# EAGLE library part S1D13743 (library microbuilder)
Epson S1D13743 Mobile Graphics Engine with 464K Internal SRAM
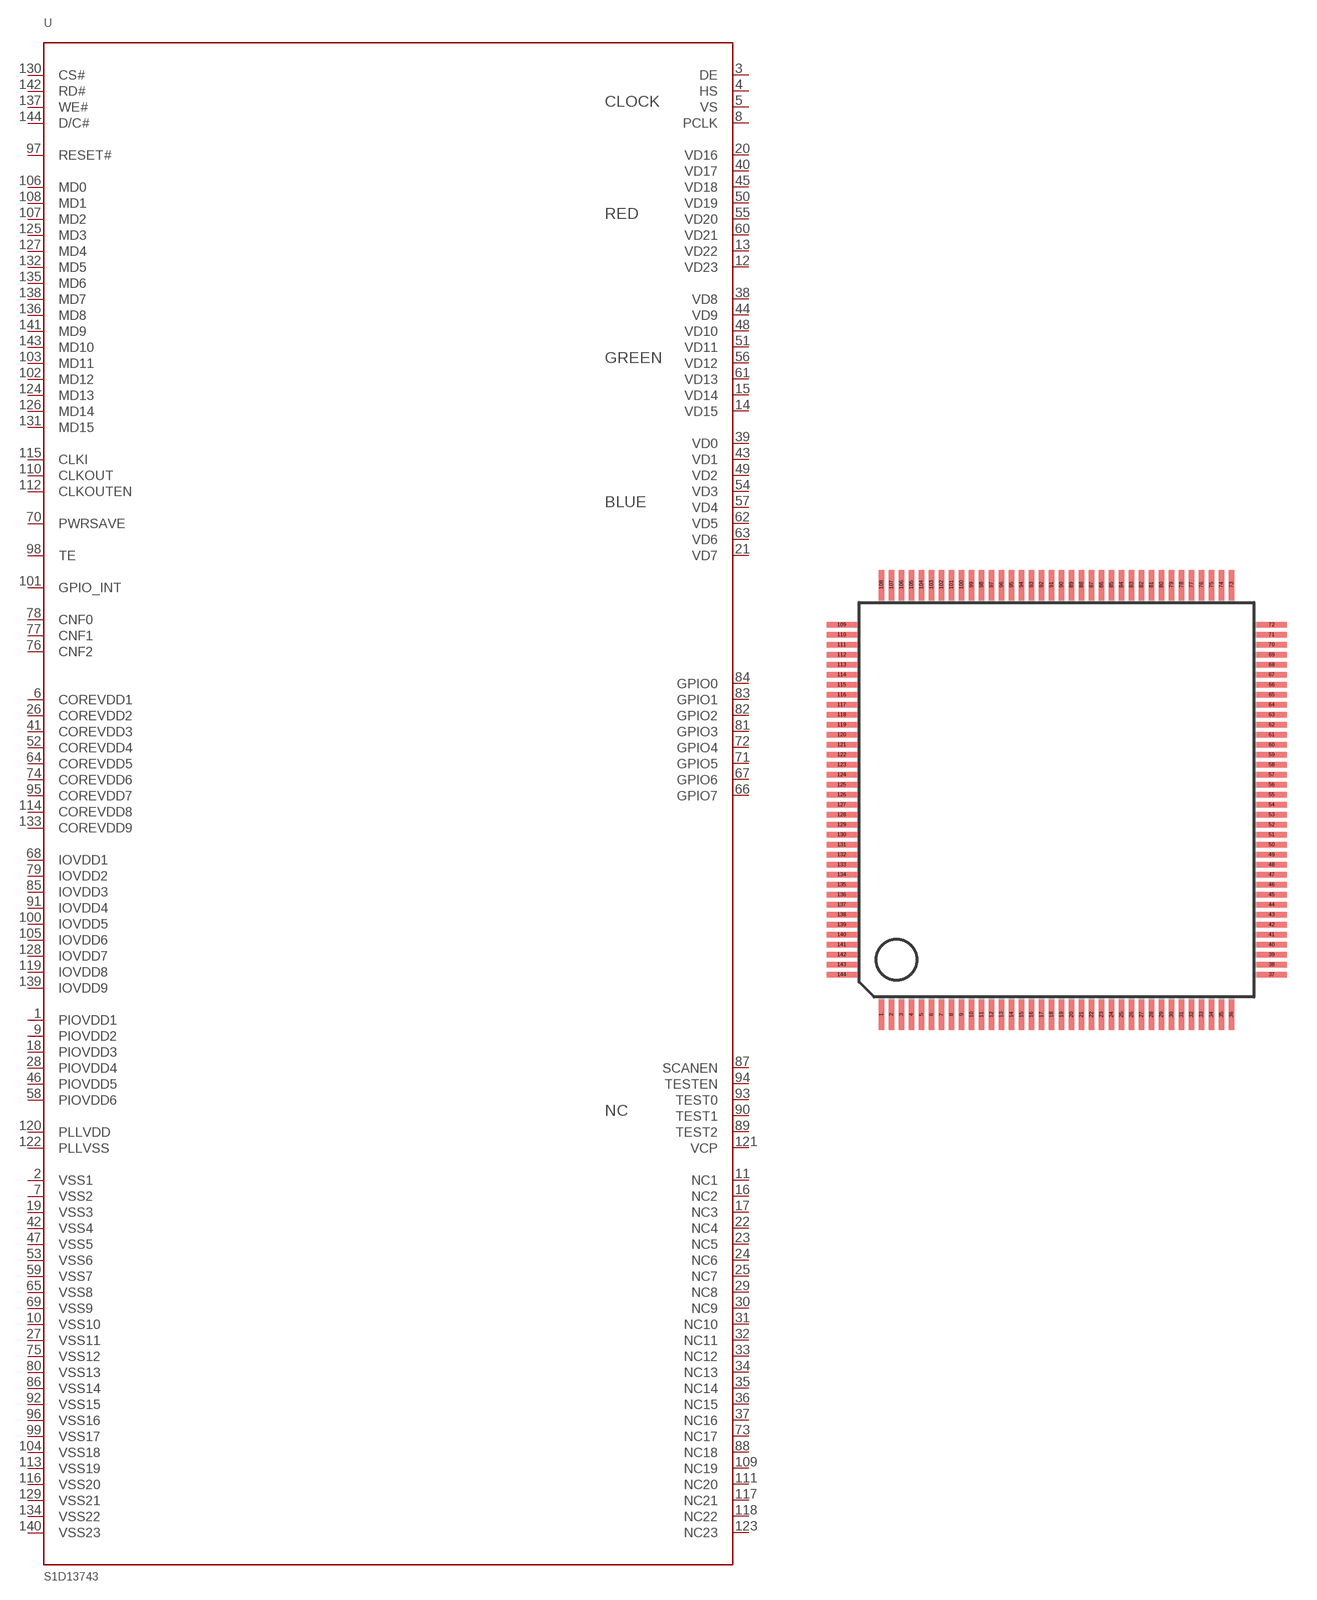
[diagram p67: symbol with the pads of LQFP144; footprint LQFP144]

Designator prefix U

## S1D13743  [LQFP144]
1  PIOVDD1
2  VSS1
3  DE
4  HS
5  VS
6  COREVDD1
7  VSS2
8  PCLK
9  PIOVDD2
10  VSS10
11  NC1
12  VD23
13  VD22
14  VD15
15  VD14
16  NC2
17  NC3
18  PIOVDD3
19  VSS3
20  VD16
21  VD7
22  NC4
23  NC5
24  NC6
25  NC7
26  COREVDD2
27  VSS11
28  PIOVDD4
29  NC8
30  NC9
31  NC10
32  NC11
33  NC12
34  NC13
35  NC14
36  NC15
37  NC16
38  VD8
39  VD0
40  VD17
41  COREVDD3
42  VSS4
43  VD1
44  VD9
45  VD18
46  PIOVDD5
47  VSS5
48  VD10
49  VD2
50  VD19
51  VD11
52  COREVDD4
53  VSS6
54  VD3
55  VD20
56  VD12
57  VD4
58  PIOVDD6
59  VSS7
60  VD21
61  VD13
62  VD5
63  VD6
64  COREVDD5
65  VSS8
66  GPIO7
67  GPIO6
68  IOVDD1
69  VSS9
70  PWRSAVE
71  GPIO5
72  GPIO4
73  NC17
74  COREVDD6
75  VSS12
76  CNF2
77  CNF1
78  CNF0
79  IOVDD2
80  VSS13
81  GPIO3
82  GPIO2
83  GPIO1
84  GPIO0
85  IOVDD3
86  VSS14
87  SCANEN
88  NC18
89  TEST2
90  TEST1
91  IOVDD4
92  VSS15
93  TEST0
94  TESTEN
95  COREVDD7
96  VSS16
97  RESET#
98  TE
99  VSS17
100  IOVDD5
101  GPIO_INT
102  MD12
103  MD11
104  VSS18
105  IOVDD6
106  MD0
107  MD2
108  MD1
109  NC19
110  CLKOUT
111  NC20
112  CLKOUTEN
113  VSS19
114  COREVDD8
115  CLKI
116  VSS20
117  NC21
118  NC22
119  IOVDD8
120  PLLVDD
121  VCP
122  PLLVSS
123  NC23
124  MD13
125  MD3
126  MD14
127  MD4
128  IOVDD7
129  VSS21
130  CS#
131  MD15
132  MD5
133  COREVDD9
134  VSS22
135  MD6
136  MD8
137  WE#
138  MD7
139  IOVDD9
140  VSS23
141  MD9
142  RD#
143  MD10
144  D/C#

## Footprint LQFP144 (pad centres in mm)
Quad Flat Pack
smd 0.27 x 1.5: 1 -8.75,-10.75; 2 -8.25,-10.75; 3 -7.75,-10.75; 4 -7.25,-10.75; 5 -6.75,-10.75; 6 -6.25,-10.75; 7 -5.75,-10.75; 8 -5.25,-10.75; 9 -4.75,-10.75; 10 -4.25,-10.75; 11 -3.75,-10.75; 12 -3.25,-10.75; 13 -2.75,-10.75; 14 -2.25,-10.75; 15 -1.75,-10.75; 16 -1.25,-10.75; 17 -0.75,-10.75; 18 -0.25,-10.75; 19 0.25,-10.75; 20 0.75,-10.75; 21 1.25,-10.75; 22 1.75,-10.75; 23 2.25,-10.75; 24 2.75,-10.75; 25 3.25,-10.75; 26 3.75,-10.75; 27 4.25,-10.75; 28 4.75,-10.75; 29 5.25,-10.75; 30 5.75,-10.75; 31 6.25,-10.75; 32 6.75,-10.75; 33 7.25,-10.75; 34 7.75,-10.75; 35 8.25,-10.75; 36 8.75,-10.75; 73 8.75,10.75; 74 8.25,10.75; 75 7.75,10.75; 76 7.25,10.75; 77 6.75,10.75; 78 6.25,10.75; 79 5.75,10.75; 80 5.25,10.75; 81 4.75,10.75; 82 4.25,10.75; 83 3.75,10.75; 84 3.25,10.75; 85 2.75,10.75; 86 2.25,10.75; 87 1.75,10.75; 88 1.25,10.75; 89 0.75,10.75; 90 0.25,10.75; 91 -0.25,10.75; 92 -0.75,10.75; 93 -1.25,10.75; 94 -1.75,10.75; 95 -2.25,10.75; 96 -2.75,10.75; 97 -3.25,10.75; 98 -3.75,10.75; 99 -4.25,10.75; 100 -4.75,10.75; 101 -5.25,10.75; 102 -5.75,10.75; 103 -6.25,10.75; 104 -6.75,10.75; 105 -7.25,10.75; 106 -7.75,10.75; 107 -8.25,10.75; 108 -8.75,10.75
smd 1.5 x 0.27: 37 10.75,-8.75; 38 10.75,-8.25; 39 10.75,-7.75; 40 10.75,-7.25; 41 10.75,-6.75; 42 10.75,-6.25; 43 10.75,-5.75; 44 10.75,-5.25; 45 10.75,-4.75; 46 10.75,-4.25; 47 10.75,-3.75; 48 10.75,-3.25; 49 10.75,-2.75; 50 10.75,-2.25; 51 10.75,-1.75; 52 10.75,-1.25; 53 10.75,-0.75; 54 10.75,-0.25; 55 10.75,0.25; 56 10.75,0.75; 57 10.75,1.25; 58 10.75,1.75; 59 10.75,2.25; 60 10.75,2.75; 61 10.75,3.25; 62 10.75,3.75; 63 10.75,4.25; 64 10.75,4.75; 65 10.75,5.25; 66 10.75,5.75; 67 10.75,6.25; 68 10.75,6.75; 69 10.75,7.25; 70 10.75,7.75; 71 10.75,8.25; 72 10.75,8.75; 109 -10.75,8.75; 110 -10.75,8.25; 111 -10.75,7.75; 112 -10.75,7.25; 113 -10.75,6.75; 114 -10.75,6.25; 115 -10.75,5.75; 116 -10.75,5.25; 117 -10.75,4.75; 118 -10.75,4.25; 119 -10.75,3.75; 120 -10.75,3.25; 121 -10.75,2.75; 122 -10.75,2.25; 123 -10.75,1.75; 124 -10.75,1.25; 125 -10.75,0.75; 126 -10.75,0.25; 127 -10.75,-0.25; 128 -10.75,-0.75; 129 -10.75,-1.25; 130 -10.75,-1.75; 131 -10.75,-2.25; 132 -10.75,-2.75; 133 -10.75,-3.25; 134 -10.75,-3.75; 135 -10.75,-4.25; 136 -10.75,-4.75; 137 -10.75,-5.25; 138 -10.75,-5.75; 139 -10.75,-6.25; 140 -10.75,-6.75; 141 -10.75,-7.25; 142 -10.75,-7.75; 143 -10.75,-8.25; 144 -10.75,-8.75